# Altium footprint library PcbLib1.PcbLib: 4 footprints
Each footprint in its own frame and in the unit in brackets; x right, y up, seen from the top. Pads: shape width x height; smd on the part's side, far side on the other; paste and mask are expansions set on the pad; w line width, h text height; cw(c..) or ccw(c..) is an arc to the next point about the centre after c.
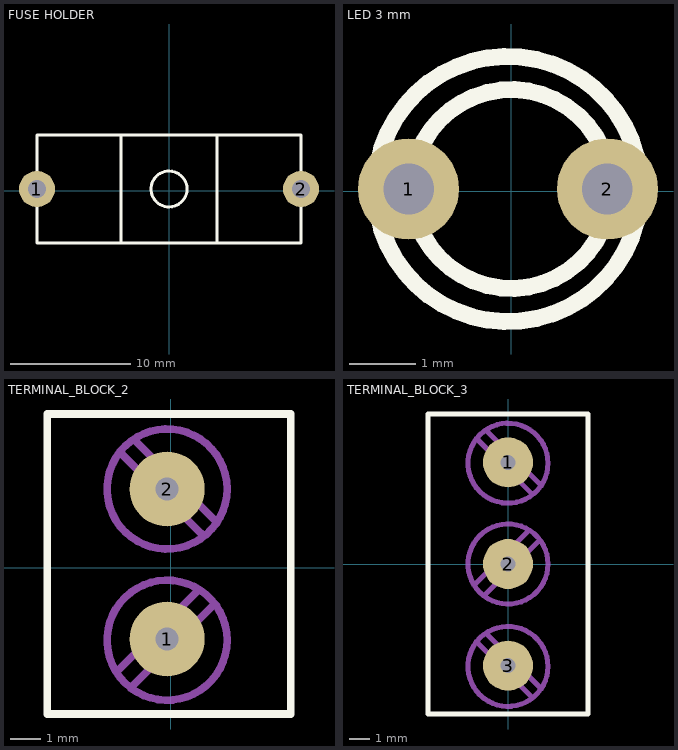
[diagram p0: the footprints below, top view; thin cyan lines are the x and y axes]

## FUSE HOLDER [mm] "Small glas fuse holder"
height 10
pads (2):
  round 3 hole 1.5: 1(-11.014,0.142) 2(10.986,0.142)
Top Overlay:
  circle w0.254: c-0.014,0.142 r1.5
  lines w0.254: -4.014,-4.358 -4.014,4.642 ; 3.986,-4.358 3.986,4.642 ; -11.014,-4.358 10.986,-4.358 10.986,4.642 -11.014,4.642 -11.014,-4.358
3D body: height 13, standoff 0, extent -11.014,-3.858 10.986,4.142

## LED 3 mm [mil] "LED 3 mm"
height 393.7
pads (2):
  round 60 hole 30: 1(-60.94,1.26) 2(57.17,1.26)
Top Overlay:
  circle w10: c0,1.26 r59.06
  circle w10: c-1.89,1.26 r78.74

## TERMINAL_BLOCK_2 [mm] "Terminal block 2 pin"
height 10
pads (2):
  round 2.5 hole 0.762: 1(-0.127,-2.373) 2(-0.127,2.627)
Top Overlay:
  lines w0.254: -4.127,-4.873 -4.127,5.127 4,5.127 4,-4.873 -4.127,-4.873
Mechanical 1:
  circle w0.254: c-0.127,2.627 r2
  circle w0.254: c-0.127,-2.413 r2
  lines w0.254: -1.778,-3.429 0.889,-0.762 ; -1.651,3.81 1.016,1.143 ; -1.27,-3.937 1.397,-1.27 1.524,-1.27 ; -1.206,4.255 1.524,1.524

## TERMINAL_BLOCK_3 [mm] "Terminal block 3 pina"
height 0.254
pads (3):
  round 2.5 hole 0.762: 1(0,5.08) 2(0,0) 3(0,-5.08)
Top Overlay:
  lines w0.254: -4,-7.5 -4,7.5 4,7.5 4,-7.5 -4,-7.5
Mechanical 1:
  circle w0.254: c0,5.04 r2
  circle w0.254: c0,-5.12 r2
  circle w0.254: c0,0 r2
  lines w0.254: -1.651,-1.016 1.016,1.651 ; -1.524,-3.937 1.143,-6.604 ; -1.524,6.223 1.143,3.556 ; -1.143,-1.524 1.524,1.143 ; -1.079,-3.492 1.651,-6.223 ; -1.079,6.667 1.651,3.937